# EAGLE library part DC-DC:PT5062(+-15,400MA) (library QuantumOptics)
PT5062 DC-DC Converter, T.I./Power Trends, ±15V @ +400mA/-200mA, input +4.75V to +V-1. Trimmable to ±7.5V to ±20V. Note minimum load of ±50mA. Note minimum 100uF on +V.
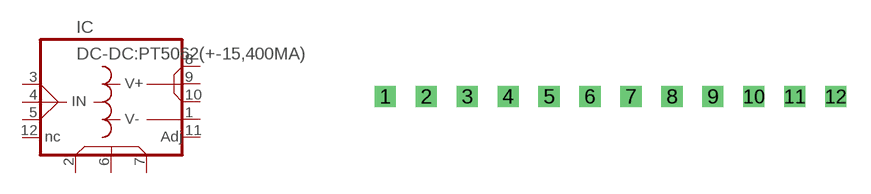
[diagram p24: symbol with the pads of PT506X; footprint PT506X]

Designator prefix IC

## DC-DC:PT5062(+-15,400MA)A  [PT506X]
1  OUT-  out
2  COM1
3  IN1  in
4  IN2  in
5  IN3  in
6  COM2
7  COM3
8  OUT+1  out
9  OUT+2  out
10  OUT+3  out
11  ADJ  nc
12  NC  nc

## Footprint PT506X (pad centres in mm)
PT506x DC-DC converter, T.I./Power Trends. PLACEHOLDER ONLY!! NOT CORRECT!
drill 0.813 square: 1 -15.24,0; 2 -12.7,0; 3 -10.16,0; 4 -7.62,0; 5 -5.08,0; 6 -2.54,0; 7 0,0; 8 2.54,0; 9 5.08,0; 10 7.62,0; 11 10.16,0; 12 12.7,0